# EAGLE library part BA7654F (library Halley)
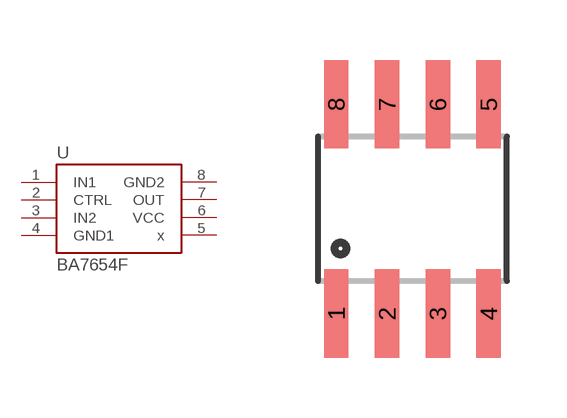
[diagram p0: symbol with the pads of SOIC-8; footprint SOIC-8]

Designator prefix -

## BA7654F  [SOIC-8]
1  IN1
2  CTRL
3  IN2
4  GND1  pwr
5  x
6  VCC  pwr
7  OUT
8  GND2  pwr

## Footprint SOIC-8 (pad centres in mm)
SOIC-8 Small Outline Integrated Circuit, 8 pins, 0.05 inch pin pitch.
smd 0.61 x 2.21: 1 -3.175,-2.616; 2 -1.905,-2.616; 3 -0.635,-2.616; 4 0.635,-2.616; 5 0.635,2.616; 6 -0.635,2.616; 7 -1.905,2.616; 8 -3.175,2.616